# Altium schematic symbol library Linear_Technology.SchLib: 11 symbols
Pins are listed as number, name and electrical type; pins without a type are passive.

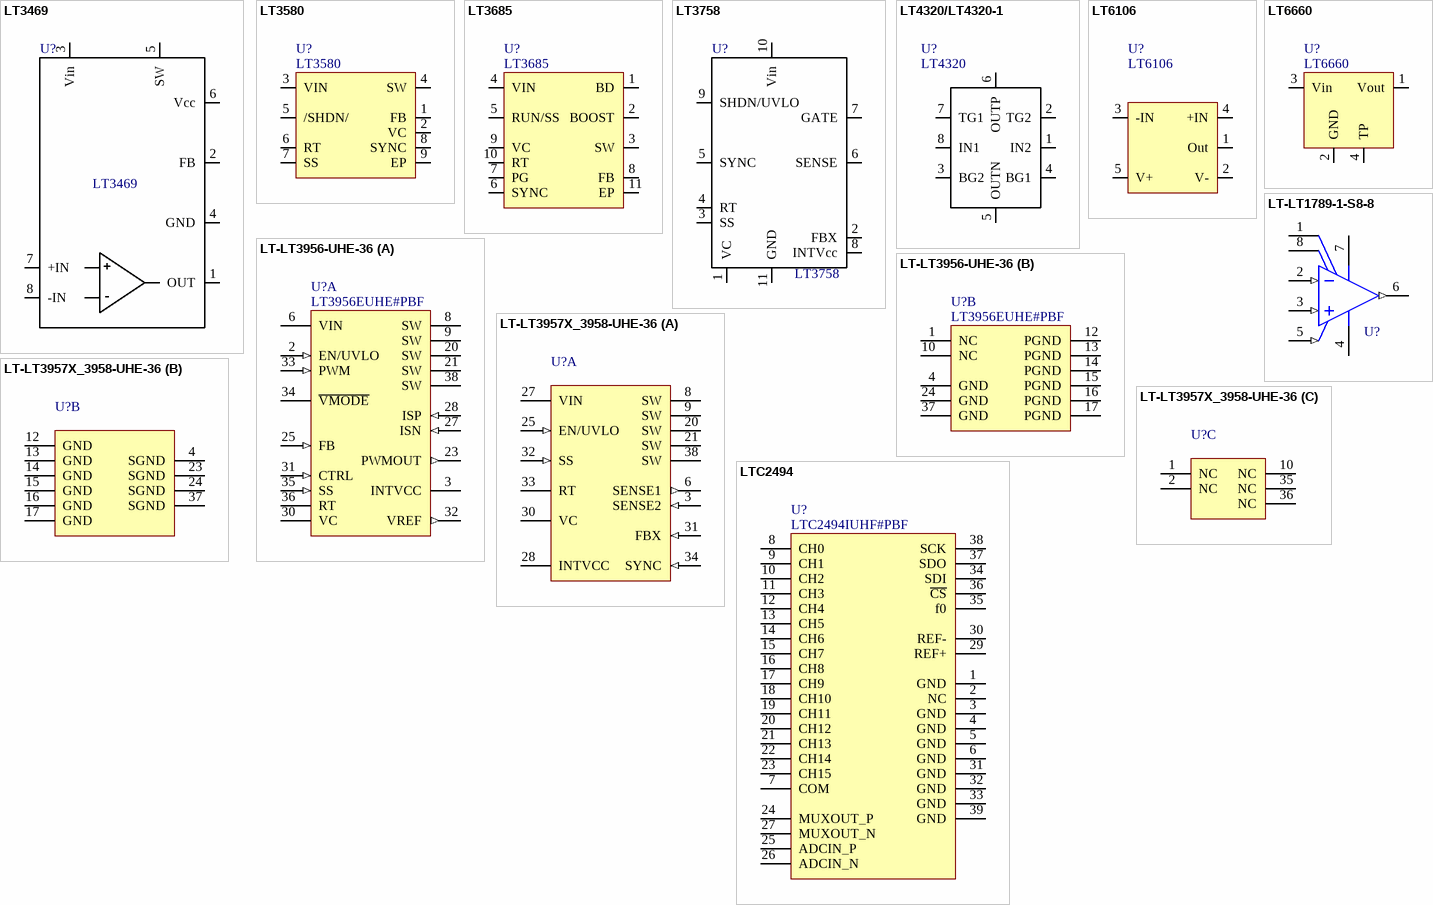
[diagram p0: symbols LT3469 to LTC2494]

## LT3469
designator U?
Piezo driver with boost regulator
footprint TSOP65P280X100-8N (TSOP, 8-Leads, Body 2,90x1,63mm, Pitch 0,65mm, IPC Medium Density)
pins: 1 OUT, 2 FB, 3 Vin, 4 GND, 5 SW, 6 Vcc, 7 +IN, 8 -IN
text: +; -

## LT3580
designator U?
Catalog: Farnell; Catalog number: 1663573; Price: *; Catalog page: *; Value: LT3580
footprint DFN 8 pins 3x3mm (SON, 8-Leads, Body 3x3mm, Pitch 0.5mm, Thermal Pad 2.38x1.65mm)
pins: 1 FB, 2 VC, 3 VIN, 4 SW, 5 /SHDN/, 6 RT, 7 SS, 8 SYNC, 9 EP

## LT3685
designator U?  value LT3685  (hidden comment: *)
Catalog: Farnell; Catalog page: *; Price: *; Catalog number: *
footprint DFN 10 PINS 3X3MM
pins: 1 BD, 2 BOOST, 3 SW, 4 VIN, 5 RUN/SS, 6 SYNC, 7 PG, 8 FB, 9 VC, 10 RT, 11 EP

## LT3758
designator U?
footprint MSOP10
pins: 1 VC, 2 FBX, 3 SS, 4 RT, 5 SYNC, 6 SENSE, 7 GATE, 8 INTVcc, 9 SHDN/UVLO, 10 Vin, 11 GND

## LT4320/LT4320-1
designator U?, comment LT4320
Ideal Diode Bridge Controller; Manufacturer: Analog Devices; Part Number: LT4320; Price 1: 7.00; Price 100: 5.24; Price 1000: 4.24
footprint LT4320HDD#PBF (Ideal Diode Bridge Controller)
pins: 1 IN2, 2 TG2, 3 BG2, 4 BG1, 5 OUTN, 6 OUTP, 7 TG1, 8 IN1

## LT6106
designator U?
Catalog: Farnell; Catalog number: 1663841; Catalog page: http://lv.farnell.com/linear-technology/lt6106cs5-trmpbf/ic-current-s-amp-36v-tsot23-5/dp/1663841; Value: LT6106; Price: 1.72
footprint SOT23-5BM (SOT23, 5-Leads, Body 2.9x1.7mm, Pitch 0.95mm, Lead Span 2.8mm, IPC Low Density)
pins: 1 Out, 2 V-, 3 -IN, 4 +IN, 5 V+

## LT6660
designator U?
Catalog: Farnell; Catalog number: 1432118; Catalog page: http://lv.farnell.com/linear-technology/lt6660hcdc-2-5-pbf/ic-sm-volt-ref-2-5v/dp/1432118; Price: 1,48
footprint DFN-3
pins: 1 Vout, 2 GND, 3 Vin, 4 TP

## LT-LT1789-1-S8-8
designator U?
footprint LT-S8-8_N (SOIC, 8-Leads, Body 4.9x3.9mm, Pitch 1.27mm, IPC Medium Density)
pins: 1 RG, 2 -IN (in), 3 +IN (in), 4 -VS (power), 5 REF (in), 6 OUT (out), 7 +VS (power), 8 RG

## LT-LT3956-UHE-36
designator U?, comment LT3956EUHE#PBF
LINEAR TECHNOLOGY  LT3956EUHE#PBF  DC/DC, 80VIN, CC/CV, 3.3A, 1MHZ, 36QFN; Catalog number: 2115926; Value: LT3956EUHE#PBF
footprint LT-UHE-36-V-UHE28MA_V (QFN, 28-Leads, Body 6x5mm, Pitch 0.5mm)
part A pins: 2 EN/UVLO (in) "Shutdown and Undervoltage Detect Pin. An accurate 1.22V falling threshold with externally programmable hysteresis detects when power is OK to enable switching. Rising hysteresis is generated by the external resistor divider (See Datasheet)", 3 INTVCC (power) "Regulated supply for internal loads, GATE driver and PWMOUT driver. Supplied from VIN and regulates to 7.15V (typical). INTVCC must be bypassed with a 4.7uF capacitor placed close to the pin. Connect INTVCC directly to VIN (See Datasheet)", 6 VIN (power) "Input Supply Pin. Must be locally bypassed with a 0.22uF (or larger) capacitor to PGND placed close to the IC.", 8 SW (power) "The drain of the switching N-channel MOSFET and must be connected to the external inductor.", 9 SW (power) "The drain of the switching N-channel MOSFET and must be connected to the external inductor.", 20 SW (power) "The drain of the switching N-channel MOSFET and must be connected to the external inductor.", 21 SW (power) "The drain of the switching N-channel MOSFET and must be connected to the external inductor.", 23 PWMOUT (out) "Buffered Version of the PWM Signal. This pin is used to drive the LED load disconnect N-channel MOSFET or level shift. This pin also serves in a protection function for the FB overvoltage condition-will toggle if the FB (See Datasheet)", 25 FB (in) "Voltage Loop Feedback Pin. FB is intended for constant-voltage regulation or for LED protection/open LED detection. The internal transconductance amplifier with output VC will regulate FB to 1.25V (nominal) through the DC/DC (See Datasheet)", 27 ISN (in) "Connection point for the negative terminal of the current feedback resistor. If ISN is greater than 2.9V, the LED current can be programmed by ILED = 250mV/RLED when VCTRL > 1.2V or ILED = (VCTRL -100mV)/(4 ? RLED) i(See Datasheet)", 28 ISP (in) "Connection point for the positive terminal of the current feedback resistor. Input bias current for this pin depends on CTRL pin voltage, as shown in the Typical Performance Characteristics. ISP is an input to the (See Datasheet)", 30 VC "Transconductance Error Amplifier Output Pin. This pin is used to stabilize the voltage loop with an RC network. This pin is high impedance when PWM is low, a feature that stores the demand current state variable for the next (See Datasheet)", 31 CTRL (in) "Current Sense Threshold Adjustment Pin. Regula-ting threshold V(ISP - ISN) is 0.25 ? VCTRL plus an offset for 0V < VCTRL < 1V. For VCTRL > 1.2V the current sense threshold is constant at the full-scale value of 250mV. Fo(See Datasheet)", 32 VREF (out) "Voltage Reference Output Pin (typically 2V). This pin drives a resistor divider for the CTRL pin, either for analog dimming or for temperature limit/compensation of LED load. Can supply up to 100uA.", 33 PWM (in) "A signal low turns off switcher, idles oscillator and disconnects VC pin from all internal loads. PWMOUT pin follows PWM pin. PWM has an internal pull-down resistor. If not used, connect to INTVCC.", 34 ~{VMODE} (oc) "An open-collector pull-down on V\M\O\D\E\ asserts if the FB input is greater than the FB regulation threshold minus 50mV (typical). To function, the pin requires an external pull-up resistor. When the PWM input is low and (See Datasheet)", 35 SS (in) "Soft-Start Pin. This pin modulates oscillator frequency and compensation pin voltage (VC) clamp. The soft-start interval is set with an external capacitor. The pin has a 10uA (typical) pull-up current source to an internal 2.(See Datasheet)", 36 RT "Switching Frequency Adjustment Pin. Set the frequency using a resistor to GND (for resistor values, see the Typical Performance curve or Table 1). Do not leave the RT pin open.", 38 SW (power) "The exposed pad, Pin 38, is the drain of the switching N-channel MOSFET and must be connected to the external inductor."
part B pins: 1 NC "No Internal Connection. These pins may be left floating or connected to an adjacent pin.", 4 GND (power) "Ground. The exposed pad, Pin 37, is ground and must be soldered directly to the ground plane.", 10 NC "No Internal Connection. These pins may be left floating or connected to an adjacent pin.", 12 PGND (power) "Source terminal of switch and the GND input to the switch current comparator. Kelvin connect to the GND plane close to the IC using Pin 12.", 13 PGND (power) "Source terminal of switch and the GND input to the switch current comparator. Kelvin connect to the GND plane close to the IC using Pin 12. Pins 13 should be connected externally to the PGND terminals of components in the (See Datasheet)", 14 PGND (power) "Source terminal of switch and the GND input to the switch current comparator. Kelvin connect to the GND plane close to the IC using Pin 12. Pins 14 should be connected externally to the PGND terminals of components in the (See Datasheet)", 15 PGND (power) "Source terminal of switch and the GND input to the switch current comparator. Kelvin connect to the GND plane close to the IC using Pin 12. Pins 15 should be connected externally to the PGND terminals of components in the (See Datasheet)", 16 PGND (power) "Source terminal of switch and the GND input to the switch current comparator. Kelvin connect to the GND plane close to the IC using Pin 12. Pins 16 should be connected externally to the PGND terminals of components in the (See Datasheet)", 17 PGND (power) "Source terminal of switch and the GND input to the switch current comparator. Kelvin connect to the GND plane close to the IC using Pin 12. Pins 17 should be connected externally to the PGND terminals of components in the (See Datasheet)", 24 GND (power) "Ground.", 37 GND (power) "Ground. The exposed pad, Pin 37, is ground and must be soldered directly to the ground plane."

## LT-LT3957X_3958-UHE-36
designator U?
footprint LT-UHE-36-V-UHE28MA_V (QFN, 28-Leads, Body 6x5mm, Pitch 0.5mm)
part A pins: 3 SENSE2 (in) "The Current Sense Input for the Control Loop. Connect this pin to SENSE1 pin directly or through a low pass filter (connect this pin to SENSE1 pin through a resistor, and to SGND through a capacitor).", 6 SENSE1 (out) "The Current Sense Output of the Internal N-channel MOSFET. Connect this pin to SENSE2 pin directly or through a lowpass filter (connect this pin to SENSE1 pin through a resistor, then connect SENSE2 to SGND through a (See Datasheet)", 8 SW (power) "Drain of Internal Power N-channel MOSFET.", 9 SW (power) "Drain of Internal Power N-channel MOSFET.", 20 SW (power) "Drain of Internal Power N-channel MOSFET.", 21 SW (power) "Drain of Internal Power N-channel MOSFET.", 25 EN/UVLO (in) "Shutdown and Undervoltage Detect Pin. An accurate 1.22V (nominal) falling threshold with externally programmable hysteresis detects when power is okay to enable switching. Rising hysteresis is generated by the external (See Datasheet)", 27 VIN (power) "Input Supply Pin. The VIN pin can be locally bypassed with a capacitor to GND (not SGND).", 28 INTVCC (power), 30 VC "Error Amplifier Compensation Pin. Used to stabilize the voltage loop with an external RC network. Place compensation components between the VC pin and SGND.", 31 FBX (in) "Positive and Negative Feedback Pin. Receives the feedback voltage from the external resistor divider between the output and SGND. Also modulates the switching frequency during start-up and fault conditions when FBX is close (See Datasheet)", 32 SS (in) "Soft-Start Pin. This pin modulates compensation pin voltage (VC) clamp. The soft-start interval is set with an external capacitor between SS pin and SGND. The pin has a 10uA (typical) pull-up current source to an internal 2.(See Datasheet)", 33 RT "Switching Frequency Adjustment Pin. Set the frequency using a resistor to SGND. Do not leave this pin open.", 34 SYNC (in) "Frequency Synchronization Pin. Used to synchronize the switching frequency to an outside clock. If this feature is used, an RT resistor should be chosen to program a switching frequency 20% slower than the SYNC pulse (See Datasheet)", 38 SW (power) "Drain of Internal Power N-channel MOSFET."
part B pins: 4 SGND (power) "Signal Ground. All small-signal components should connect to this ground. SGND is connected to GND inside the IC to ensure Kelvin connection for the internal switch current sensing. Do not connect SGND and GND externally.", 12 GND (power) "Ground. These pins connect to the source terminal of internal power N-channel MOSFET through an internal sense resistor. GND is connected to SGND inside the IC to ensure Kelvin connection for the internal switch current (See Datasheet)", 13 GND (power) "Ground. These pins connect to the source terminal of internal power N-channel MOSFET through an internal sense resistor. GND is connected to SGND inside the IC to ensure Kelvin connection for the internal switch current (See Datasheet)", 14 GND (power) "Ground. These pins connect to the source terminal of internal power N-channel MOSFET through an internal sense resistor. GND is connected to SGND inside the IC to ensure Kelvin connection for the internal switch current (See Datasheet)", 15 GND (power) "Ground. These pins connect to the source terminal of internal power N-channel MOSFET through an internal sense resistor. GND is connected to SGND inside the IC to ensure Kelvin connection for the internal switch current (See Datasheet)", 16 GND (power) "Ground. These pins connect to the source terminal of internal power N-channel MOSFET through an internal sense resistor. GND is connected to SGND inside the IC to ensure Kelvin connection for the internal switch current (See Datasheet)", 17 GND (power) "Ground. These pins connect to the source terminal of internal power N-channel MOSFET through an internal sense resistor. GND is connected to SGND inside the IC to ensure Kelvin connection for the internal switch current (See Datasheet)", 23 SGND (power) "Signal Ground. All small-signal components should connect to this ground. SGND is connected to GND inside the IC to ensure Kelvin connection for the internal switch current sensing. Do not connect SGND and GND externally.", 24 SGND (power) "Signal Ground. All small-signal components should connect to this ground. SGND is connected to GND inside the IC to ensure Kelvin connection for the internal switch current sensing. Do not connect SGND and GND externally.", 37 SGND (power) "Signal Ground. All small-signal components should connect to this ground. SGND is connected to GND inside the IC to ensure Kelvin connection for the internal switch current sensing. Do not connect SGND and GND externally."
part C pins: 1 NC "No Internal Connection. Leave these pins open or connect them to the adjacent pins.", 2 NC "No Internal Connection. Leave these pins open or connect them to the adjacent pins.", 10 NC "No Internal Connection. Leave these pins open or connect them to the adjacent pins.", 35 NC "No Internal Connection. Leave these pins open or connect them to the adjacent pins.", 36 NC "No Internal Connection. Leave these pins open or connect them to the adjacent pins."

## LTC2494
designator U?  value LTC2494IUHF#PBF
LTC2494IUHF#PBF; Catalog number: 2294653; Price: 4,81
footprint QFN38 (QFN, 38-Leads, Body 7,0x5,0mm (max), Pitch 0,50mm, IPC Medium Density)
pins: 1 GND, 2 NC, 3 GND, 4 GND, 5 GND, 6 GND, 7 COM, 8 CH0, 9 CH1, 10 CH2, 11 CH3, 12 CH4, 13 CH5, 14 CH6, 15 CH7, 16 CH8, 17 CH9, 18 CH10, 19 CH11, 20 CH12, 21 CH13, 22 CH14, 23 CH15, 24 MUXOUT_P, 25 ADCIN_P, 26 ADCIN_N, 27 MUXOUT_N, 29 REF+, 30 REF-, 31 GND, 32 GND, 33 GND, 34 SDI, 35 f0, 36 ~{CS}, 37 SDO, 38 SCK, 39 GND